# EAGLE library part TWS (library computronics.com.au)
TWS - UHF ASK Data Transmitter Specifications can be viewed at http://computronics.com.au/module/txrxpair/
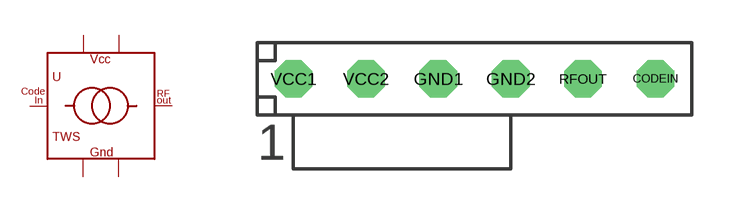
[diagram p1: symbol with the pads of TWS; footprint TWS]

Designator prefix -

## TWS"  [TWS]
CODEIN  CIN  in
GND1  GND1  pwr
GND2  GND2  pwr
RFOUT  RFOUT  out
VCC1  VCC1  pwr
VCC2  VCC2  pwr

## Footprint TWS (pad centres in mm)
TWS transmitter module
drill 0.813 octagon: CODEIN 6.35,0; GND1 -1.27,0; GND2 1.27,0; RFOUT 3.81,0; VCC1 -6.35,0; VCC2 -3.81,0